# Altium integrated library Gennum Operational Amplifier.IntLib: 2 symbols
Pins are listed as number, name and electrical type; pins without a type are passive.

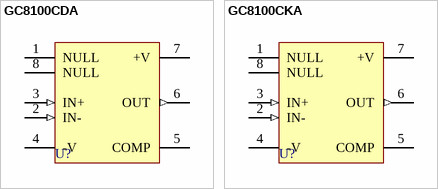
[diagram p0: symbols GC8100CDA to GC8100CKA]

## GC8100CDA
designator U?
Low Power Operational Amplifier; Published: 8-Jun-2000; LatestRevisionDate: 17-Jul-2002; LatestRevisionNote: Re-released for DXP Platform.; PackageVersion: Nov-1999; PackageReference: PDIP8; Publisher: Altium Limited; PackageDescription: DIP; 8 Leads; Row Spacing 7.62 mm; Pitch 2.54 mm; ComponentLink1Description: Manufacturer Link; ComponentLink1URL: http://www.gennum.com/index.html
footprint PDIP8 (DIP; 8 Leads; Row Spacing 7.62 mm; Pitch 2.54 mm)
pins: 1 NULL, 2 IN- (in), 3 IN+ (in), 4 -V (power), 5 COMP, 6 OUT (out), 7 +V (power), 8 NULL

## GC8100CKA
designator U?
Low Power Operational Amplifier; Published: 8-Jun-2000; LatestRevisionDate: 13-Apr-2006; LatestRevisionNote: IPC-7351 Footprint Added.; PackageReference: SOIC8; Publisher: Altium Limited; PackageDescription: 8-Pin Small Outline Integrated Circuit 1.27 mm Pitch; Code_JEDEC: MS-012-AA; Code_IPC: SOIC127P600-8; ComponentLink1Description: Manufacturer Link; ComponentLink1URL: http://www.gennum.com/index.html
footprint SOIC8_N (SOIC, 8-Leads, Body 4.8x3.9mm, Pitch 1.27mm, IPC Medium Density)
footprint SOIC8_L (SOIC, 8-Leads, Body 4.8x3.9mm, Pitch 1.27mm, IPC High Density)
footprint SOIC8_M (SOIC, 8-Leads, Body 4.8x3.9mm, Pitch 1.27mm, IPC Low Density)
3D model SOIC8 (8-Pin Small Outline Integrated Circuit 1.27 mm Pitch)
pins: 1 NULL, 2 IN- (in), 3 IN+ (in), 4 -V (power), 5 COMP, 6 OUT (out), 7 +V (power), 8 NULL